# EAGLE library part PCA9502_I2C (library COM_ETH-V1)
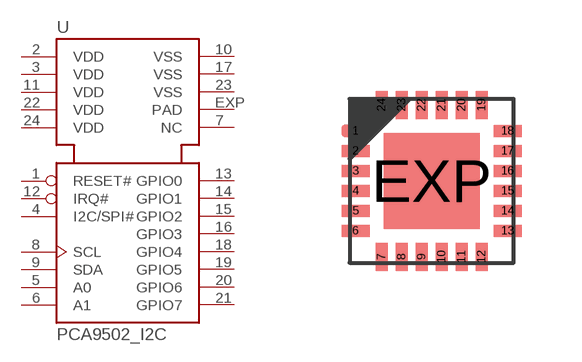
[diagram p2: symbol with the pads of HVQFN24; footprint HVQFN24]

Designator prefix U

## PCA9502_I2C  [HVQFN24]
1  RESET#  in
2  VDD  pwr
3  VDD  pwr
4  I2C/SPI#  in
5  A0  in
6  A1  in
7  NC  nc
8  SCL  in
9  SDA
10  VSS  pwr
11  VDD  pwr
12  IRQ#  out
13  GPIO0
14  GPIO1
15  GPIO2
16  GPIO3
17  VSS  pwr
18  GPIO4
19  GPIO5
20  GPIO6
21  GPIO7
22  VDD  pwr
23  VSS  pwr
24  VDD  pwr
EXP  PAD  pwr

## Footprint HVQFN24 (pad centres in mm)
smd 0.7 x 0.3: 1 -1.9,1.25; 2 -1.9,0.75; 3 -1.9,0.25; 4 -1.9,-0.25; 5 -1.9,-0.75; 6 -1.9,-1.25; 13 1.9,-1.25; 14 1.9,-0.75; 15 1.9,-0.25; 16 1.9,0.25; 17 1.9,0.75; 18 1.9,1.25
smd 0.3 x 0.7: 7 -1.25,-1.9; 8 -0.75,-1.9; 9 -0.25,-1.9; 10 0.25,-1.9; 11 0.75,-1.9; 12 1.25,-1.9; 19 1.25,1.9; 20 0.75,1.9; 21 0.25,1.9; 22 -0.25,1.9; 23 -0.75,1.9; 24 -1.25,1.9
smd 2.4 x 2.4: EXP 0,0